# Altium integrated library ADM7170ACPZ-1.3-R7.IntLib: 1 symbol
Pins are listed as number, name and electrical type; pins without a type are passive.

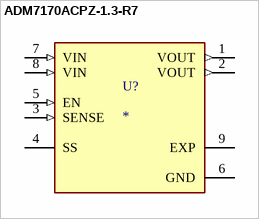
[diagram p0: symbol ADM7170ACPZ-1.3-R7]

## ADM7170ACPZ-1.3-R7
designator U?
6.5 V, 500 mA, Ultralow Noise, High PSRR, Fast Transient Response CMOS LDO; MF: Analog Devices; MP: ADM7170ACPZ-1.3-R7; SnapEDA_Link: https://www.snapeda.com/parts/ADM7170ACPZ-1.3-R7/Analog+Devices/view-part/?ref=snap; Package: LFCSP -8 Analog Devices; Value: *; Check_prices: https://www.snapeda.com/parts/ADM7170ACPZ-1.3-R7/Analog+Devices/view-part/?ref=eda
footprint SON50P300X300X80-9N
pins: 1 VOUT (out), 2 VOUT (out), 3 SENSE (in), 4 SS, 5 EN (in), 6 GND (power), 7 VIN (in), 8 VIN (in), 9 EXP (power)